# Altium schematic symbol library mySch.SchLib: 47 symbols
Pins are listed as number, name and electrical type; pins without a type are passive.

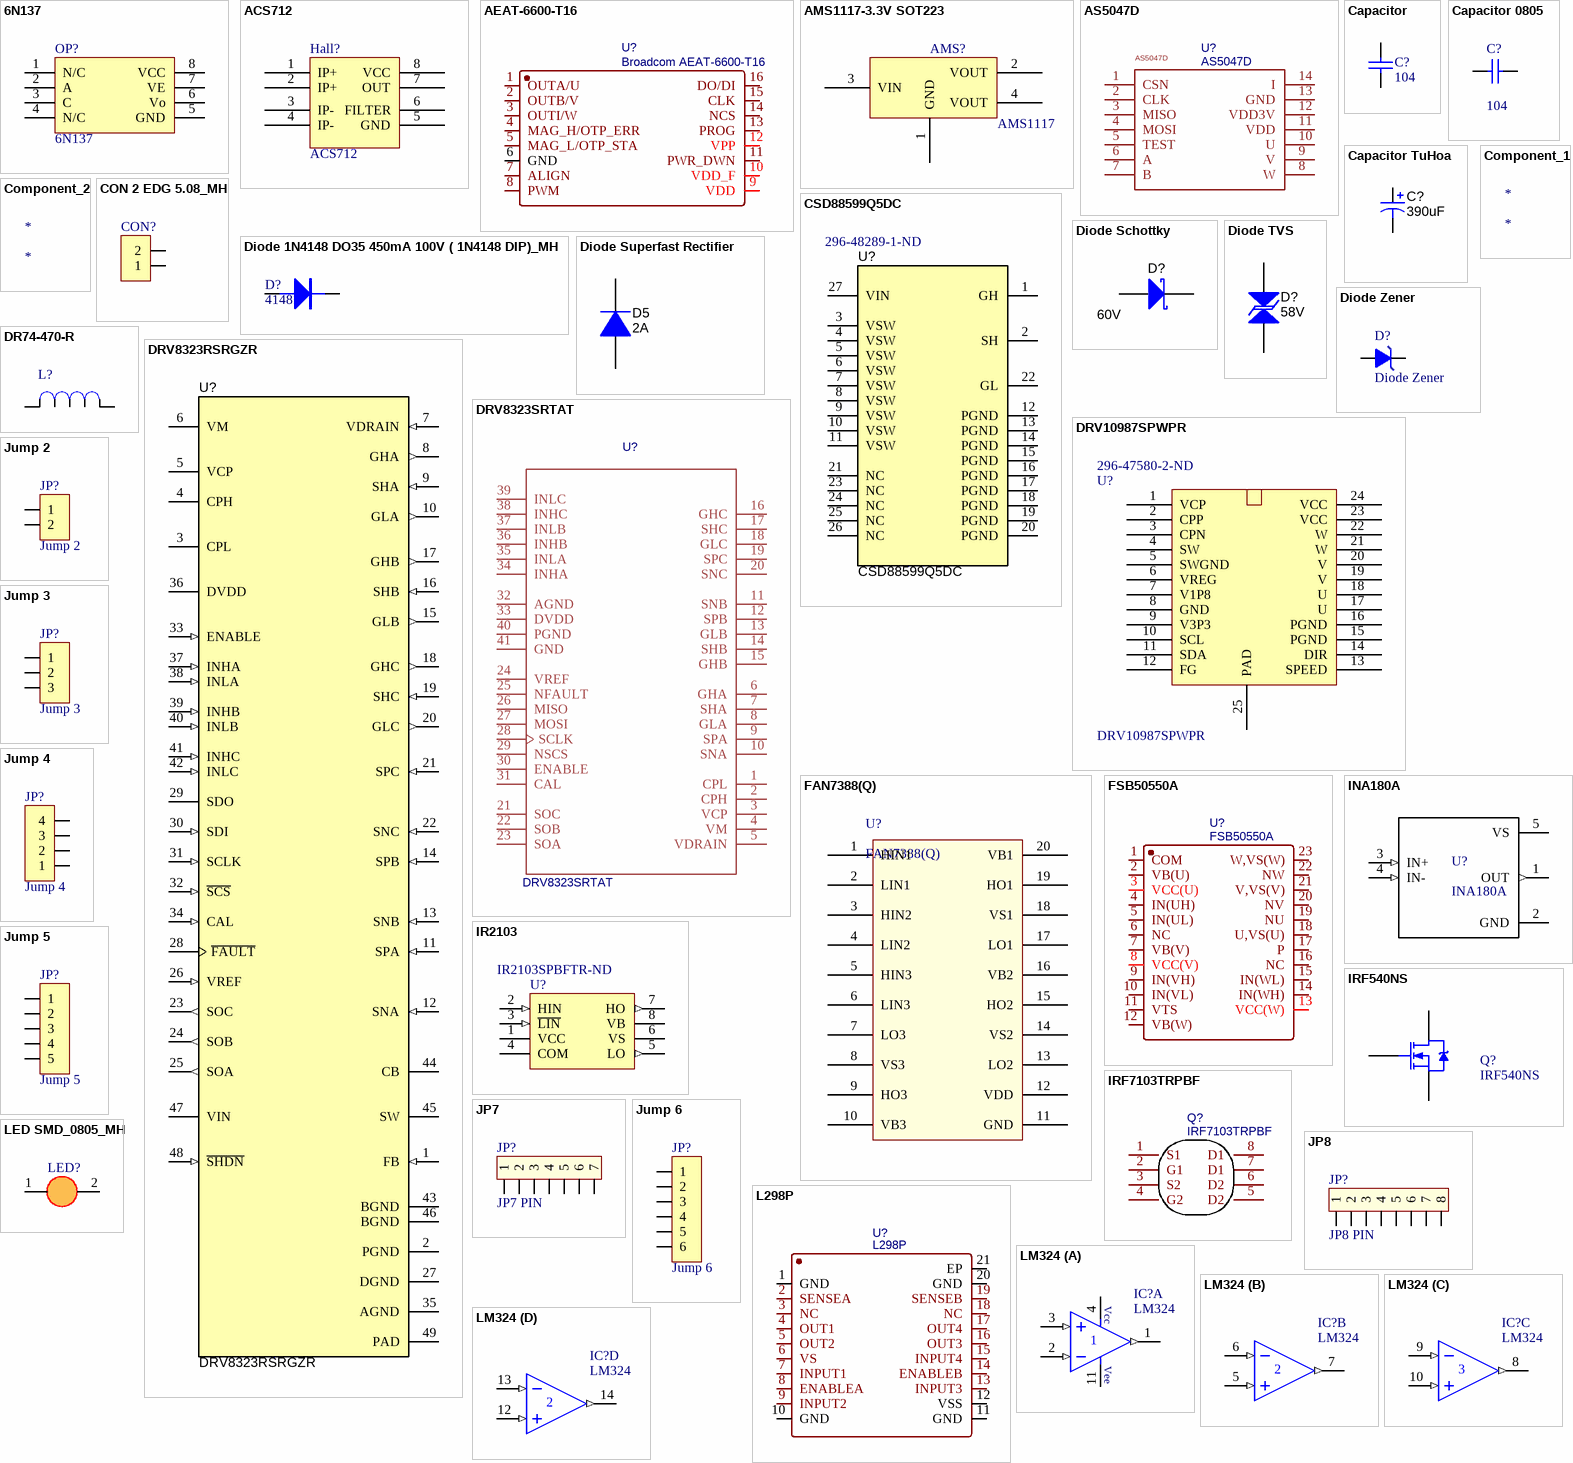
[diagram p0: symbols 6N137 to LM324]

## 6N137
designator OP?, comment 6N137 DIP8 Opto 10Mbit  (value not drawn)
6N137 DIP8 Opto 10Mbit/s
footprint DIP8
pins: 1 N/C, 2 A, 3 C, 4 N/C, 5 GND, 6 Vo, 7 VE, 8 VCC

## ACS712
designator Hall?
footprint SOP 8
pins: 1 IP+, 2 IP+, 3 IP-, 4 IP-, 5 GND, 6 FILTER, 7 OUT, 8 VCC

## AEAT-6600-T16
designator U?, comment Broadcom AEAT-6600-T16
Contributor: eddy.rolland; BOM_Manufacturer Part: AEAT-6600-T16; BOM_Supplier Part: 516-2636-ND; BOM_Supplier: Digi-Key; spicePre: U; Supplier 1: Digi-Key; Supplier Part Number 1: 516-2636-ND
footprint TSSOP16 (TSSOP, 16-Leads, Body 5.10x4.40mm, Pitch 0.65mm, IPC High Density)
pins: 1 OUTA/U, 2 OUTB/V, 3 OUTI/W, 4 MAG_H/OTP_ERR, 5 MAG_L/OTP_STA, 6 GND, 7 ALIGN, 8 PWM, 9 VDD, 10 VDD_F, 11 PWR_DWN, 12 VPP, 13 PROG, 14 NCS, 15 CLK, 16 DO/DI

## AMS1117-3.3V SOT223
designator AMS?, comment AMS1117
footprint SOT223 (SOT-223/SC-73; 4 Leads; Body 6.7 x 7.3 mm, inc. leads (LxW max))
pins: 1 GND, 2 VOUT, 3 VIN, 4 VOUT

## AS5047D
designator U?
BOM_Manufacturer Part: ?; spicePre: U; Supplier 1: Digi-Key; Supplier Part Number 1: AS5047D-ATSMTR-ND
footprint TSSOP14 (TSSOP, 14-Leads, Body 5.00x4.40mm, Pitch 0.65mm, IPC High Density)
pins: 1 CSN, 2 CLK, 3 MISO, 4 MOSI, 5 TEST, 6 A, 7 B, 8 W, 9 V, 10 U, 11 VDD, 12 VDD3V, 13 GND, 14 I

## Capacitor
designator C?, comment 104
Capacitor; VALUE: CN?; LatestRevisionDate: 17-Jul-2002; LatestRevisionNote: Re-released for DXP Platform.; PackageReference: C1206; Publisher: Altium Limited; Value: 104
footprint SM-0603 (Compoment SMD 120x60mil)
pins: 1, 2

## Capacitor 0805
designator C?, comment 104
Ceramic Chip Capacitor - Standard; Note: Footprint corresponds to dimensions for bulk cassette packaging. This case size has tightened tolerances.; Published: 17-Jul-2002; LatestRevisionDate: 19-Mar-2004; LatestRevisionNote: Silkscreen size reduced.; DatasheetDocument: Mar-2001; PackageDocument: Mar-2001; PackageReference: 0805; Publisher: Altium Limited; Code_JEITA: 0805; Code_IPC: 2012[0805]; ComponentLink1Description: Manufacturer Link; ComponentLink1URL: http://www.kemet.com/; ComponentLink2Description: Datasheet; ComponentLink2URL: http://www.kemet.com/kemet/web/homepage/kechome.nsf/vapubfilesname/F3102TA.pdf/$file/F3102TA.pdf; Value: 104
footprint TU_SMD_0805
footprint 0603_Cap
footprint 1210_CAP
pins: 1, 2

## Capacitor TuHoa
designator C?, comment 390uF
PartNumber: UHW1H391MPD6; Manufacturer: Nichicon; Polarized: Y; CompType: Capacitor; U/M: EA; Cap_F: 0.000390; Tolerance_%: 20; Value1: Unknown; VDC_V: 50; Value2: 50V; TaMin_C: -40; TaMax_C: 105; Cap_Case: 10x22; AEC Category: Q200; AEC Qualified: N; SymbolVersion: 2008-07-09; Value: 390uF; PackageReference: 10x22; RoHS: Y; MountType: TH; Technology: AL; Series: ZL; Publisher: Texas Instruments; LatestRevisionDate: 2015-12-17; ComponentLink1Description: Datasheet link; ComponentLink1URL: http://nichicon-us.com/english/products/pdfs/e-uhw.pdf; Supplier 1: Digi-Key; Supplier Part Number 1: 493-6885-ND; AEC Grade: N/A; ValueDisplayed: 390uF
footprint CAPPR5-10X20 (Capacitor, Electrolytic, Radial; Body 10 x 20 mm (Dia.xH typ); Pin Spacing 5 mm (typ))
footprint CAP_12.5 X 25
footprint CP1/3.0
pins: 1 +, 2 -

## Component_1
designator *

## Component_2
designator *

## CON 2 EDG 5.08_MH
designator CON?
CON 2 EDG 5.08 (xanh cong)
footprint CON 2 EDG 5.08
footprint CON200
pins: 1, 2

## CSD88599Q5DC
designator U?  Supplier Part Number 1: 296-48289-1-ND
60 V Half-Bridge NexFE Power Block, DMM0022A; Alternate PartNumber: CSD88599Q5DCT; Manufacturer: Texas Instruments; SymbolCreator: Altium; SizeArea_mm2: 30; SizeAreaWB_mm2: 56; SizeX_mm: 5; SizeY_mm: 6; SizeZ_mm: 1.05; CompType: IC; U/M: EA; SymbolVersion: 2016-08-25; PartNumber: CSD88599Q5DC; PackageReference: DMM0022A; PackageDescription: LSON-CLIP-27; MountType: SMT; ComponentLink1Description: Datasheet Link; ComponentLink1URL: https://sps06.itg.ti.com/sites/KMS/crossdivteams/altium/docs/ComponentDatasheets/CSD88599Q5DC.pdf; RoHS: Y; Publisher: Texas Instruments; LatestRevisionDate: 2016-08-27; Alternate Manufacturer: Texas Instruments; Supplier 1: Digi-Key
footprint DMM0022A (SON, 27-Leads, Body 5x6mm, Pitch 0.5mm)
pins: 1 GH, 2 SH, 3 VSW, 4 VSW, 5 VSW, 6 VSW, 7 VSW, 8 VSW, 9 VSW, 10 VSW, 11 VSW, 12 PGND (power), 13 PGND (power), 14 PGND (power), 15 PGND (power), 16 PGND (power), 17 PGND (power), 18 PGND (power), 19 PGND (power), 20 PGND (power), 21 NC, 22 GL, 23 NC, 24 NC, 25 NC, 26 NC, 27 VIN (power)

## Diode 1N4148 DO35 450mA 100V ( 1N4148 DIP)_MH
designator D?, comment 4148
Diode 1N4148 DO35 450mA 100V ( 1N4148 DIP)
footprint Diode Zener 1N5363B 5W 30V
footprint D2A (Diode 2A, W 150mil, L 450mil)
pins: 1, 2

## Diode Schottky
designator D?, comment 60V
Diode, Schottky, 60 V, 1 A, SOD-323F; PartNumber: PMEG6010CEJ,115; Manufacturer: NXP Semiconductor; U/M: EA; Vf_V: 0.66; Value1: 1A; Value2: 0.66V; Io_A: 1; Vr_V: 60; TJmax_C: 150; SizeAreaWB_mm2: 7.875; SizeArea_mm2: 3.125; SizeX_mm: 2.5; SizeY_mm: 1.25; SizeZ_mm: 0.8; AEC Category: Q101; CompType: Diode; SymbolVersion: 2008-12-08; PackageReference: SOD-323F; Value: 60V; MountType: SMT; Type: Schottky; RoHS: Y; Published: 2008-06-26; Publisher: Texas Instruments; LatestRevisionDate: 2016-08-24; ComponentLink1Description: Datasheet link; ComponentLink1URL: http://www.nxp.com/documents/data_sheet/PMEG6010CEH_PMEG6010CEJ.pdf; Supplier 1: Digi-Key; Supplier Part Number 1: 568-4138-1-ND; Supplier 2: Mouser; Supplier Part Number 2: 771-PMEG6010CEJ-T/R; Supplier 3: Farnell; Supplier Part Number 3: 1867616; AEC Qualified: ?; Supplier 4: Digi-Key; Supplier Part Number 4: 1727-3882-1-ND
footprint PMEG6010CEJ,115 (NXP recommended land pattern)
pins: 1 K, 2 A

## Diode Superfast Rectifier
designator D5, comment 2A
Diode, Superfast Rectifier, 200 V, 2 A, SMA; PartNumber: ES2DA-13-F; Manufacturer: Diodes Inc.; U/M: EA; Vf_V: 0.92; Value: 200V; Value2: 0.92V; Io_A: 2; Vr_V: 200; TJmax_C: 150; RJC_CperW: 20; SizeAreaWB_mm2: 37.3428; SizeArea_mm2: 16.3228; SizeX_mm: 5.59; SizeY_mm: 2.92; SizeZ_mm: 2.87; AEC Category: Q101; SymbolVersion: 2008-12-08; PackageReference: SMA; CompType: Diode; Value1: 2A; MountType: SMT; Type: Superfast Rectifier; RoHS: Y; Published: 2008-06-26; Publisher: Texas Instruments; LatestRevisionDate: 2016-08-24; ComponentLink1Description: Datasheet link; ComponentLink1URL: http://www.diodes.com/datasheets/ds14002.pdf; Supplier 1: Digi-Key; Supplier Part Number 1: ES2DA-FDICT-ND; Supplier 2: Mouser; Supplier Part Number 2: 621-ES2DA-13-F; Supplier 3: Newark; Supplier Part Number 3: 65W8574; AEC Qualified: ?
footprint SMA (Molded Diode, 2-Leads, Body 4.3x2.6mm, IPC Medium Density, based on OnSemi component dimensions and land pattern)
pins: 1 K, 2 A

## Diode TVS
designator D?, comment 58V
Diode, TVS, Bi, 58 V, SMA; PartNumber: SMAJ58CA; Manufacturer: Littelfuse; U/M: EA; Power_W: 3.3; Vr_V: 58; Value1: 3.3W; RJA_CperW: 120; SizeAreaWB_mm2: 37.3428; SizeArea_mm2: 16.3228; SizeX_mm: 5.59; SizeY_mm: 2.92; SizeZ_mm: 2.87; AEC Category: Q101; CompType: TVS; SymbolVersion: 2012-01-13; PackageReference: SMA; Vz_V: N/A; MountType: SMT; RoHS: Y; ComponentLink1Description: Datasheet link; ComponentLink1URL: http://www.littelfuse.com/~/media/electronics/datasheets/tvs_diodes/littelfuse_tvs_diode_smaj_datasheet.pdf.pdf; Published: 2008-10-08; Publisher: Texas Instruments; LatestRevisionDate: 2016-08-19; LatestRevisionNote: Updated Supplier Data; Supplier 1: Digi-Key; Supplier Part Number 1: SMAJ58CALFDKR-ND; Supplier 2: Mouser; Supplier Part Number 2: 576-SMAJ58CA; Supplier 3: Farnell; Supplier Part Number 3: 1685149; AEC Qualified: ?; Value: 58V
footprint SMAJ58CALFTR-ND (Molded Diode, 2-Leads, Body 4.3x2.6mm, IPC Medium Density, based on OnSemi component dimensions and land pattern)
pins: 1, 2

## Diode Zener
designator D?
footprint DO-35
pins: 1 A, 2 K

## DR74-470-R
designator L?  (value not drawn)
Inductor Power Shielded Drum Core 49.64uH/47uH 20% 100KHz Ferrite 1.15A 216mOhm DCR T/R; MF: Eaton; Package: Nonstandard Cooper Bussmann; MP: DR74-470-R; Price: 0.92 USD; Availability: Good; SnapEDA_Link: https://www.snapeda.com/parts/DR74-470-R/Eaton/view-part/?ref=snap; Value: *; Supplier 1: Digi-Key; Supplier Part Number 1: 513-1535-2-ND
footprint INDM7676X435N
pins: 1, 2

## DRV8323RSRGZR
designator U?
60-V Three-Phase Smart Gate Driver, RGZ0048B; Alternate PartNumber: DRV8323RSRGZT; Manufacturer: Texas Instruments; SymbolCreator: Altium; SizeArea_mm2: 49; SizeAreaWB_mm2: 81; SizeX_mm: 7; SizeZ_mm: 1; CompType: IC; U/M: EA; SymbolVersion: 2016-03-15; PartNumber: DRV8323RSRGZR; PackageReference: RGZ0048B; PackageDescription: VQFN-48; MountType: SMT; SizeY_mm: 7; ComponentLink1Description: Datasheet Link; ComponentLink1URL: https://sps06.itg.ti.com/sites/KMS/crossdivteams/altium/docs/ComponentDatasheets/DRV832x_031016.pdf; RoHS: Y; Publisher: Texas Instruments; LatestRevisionDate: 2016-08-27; Alternate Manufacturer: Texas Instruments; Supplier 1: Digi-Key; Supplier Part Number 1: 296-47769-2-ND
footprint RGZ0048B (QFN, 48-Leads, Body 7x7mm, Pitch 0.5mm, Thermal Pad 5.15x5.15mm, TI Recommended)
pins: 1 FB (in), 2 PGND (power), 3 CPL, 4 CPH, 5 VCP (power), 6 VM (power), 7 VDRAIN (in), 8 GHA (out), 9 SHA (in), 10 GLA (out), 11 SPA (in), 12 SNA (in), 13 SNB (in), 14 SPB (in), 15 GLB (out), 16 SHB (in), 17 GHB (out), 18 GHC (out), 19 SHC (in), 20 GLC (out), 21 SPC (in), 22 SNC (in), 23 SOC (out), 24 SOB (out), 25 SOA (out), 26 VREF (in), 27 DGND (power), 28 ~{FAULT} (oc), 29 SDO, 30 SDI (in), 31 SCLK (in), 32 ~{SCS} (in), 33 ENABLE (in), 34 CAL (in), 35 AGND (power), 36 DVDD (power), 37 INHA (in), 38 INLA (in), 39 INHB (in), 40 INLB (in), 41 INHC (in), 42 INLC (in), 43 BGND (power), 44 CB (power), 45 SW (power), 46 BGND (power), 47 VIN (power), 48 ~{SHDN} (in), 49 PAD (power)

## DRV8323SRTAT
designator U?
Contributor: Peanut; BOM_Manufacturer Part: ?; spicePre: U; Supplier 1: Digi-Key; Supplier Part Number 1: 296-48535-2-ND
footprint WQFN-40(6X6)
pins: 1 CPL, 2 CPH, 3 VCP, 4 VM, 5 VDRAIN, 6 GHA, 7 SHA, 8 GLA, 9 SPA, 10 SNA, 11 SNB, 12 SPB, 13 GLB, 14 SHB, 15 GHB, 16 GHC, 17 SHC, 18 GLC, 19 SPC, 20 SNC, 21 SOC, 22 SOB, 23 SOA, 24 VREF, 25 NFAULT, 26 MISO, 27 MOSI, 28 SCLK, 29 NSCS, 30 ENABLE, 31 CAL, 32 AGND, 33 DVDD, 34 INHA, 35 INLA, 36 INHB, 37 INLB, 38 INHC, 39 INLC, 40 PGND, 41 GND

## DRV10987SPWPR
designator U?  Supplier Part Number 1: 296-47580-2-ND
Supplier 1: Digi-Key
footprint TSSOP24 (TSSOP, 24-Leads, Body 7.80x4.40mm, Pitch 0.65mm, IPC High Density)
footprint HTSSOP24
footprint HTSSOP24(Q)
pins: 1 VCP, 2 CPP, 3 CPN, 4 SW, 5 SWGND, 6 VREG, 7 V1P8, 8 GND, 9 V3P3, 10 SCL, 11 SDA, 12 FG, 13 SPEED, 14 DIR, 15 PGND, 16 PGND, 17 U, 18 U, 19 V, 20 V, 21 W, 22 W, 23 VCC, 24 VCC, 25 PAD

## FAN7388(Q)
designator U?
footprint SOIC20_M (Footprint not found)
footprint SOIC20A_M (20-Pin Small Outline Integrated Circuit 1.27 mm Pitch, IPC Low Density)
pins: 1 HIN1, 2 LIN1, 3 HIN2, 4 LIN2, 5 HIN3, 6 LIN3, 7 LO3, 8 VS3, 9 HO3, 10 VB3, 11 GND, 12 VDD, 13 LO2, 14 VS2, 15 HO2, 16 VB2, 17 LO1, 18 VS1, 19 HO1, 20 VB1

## FSB50550A
designator U?
BOM_Manufacturer: ON Semicon; Contributor: LCSC; BOM_Supplier: LCSC; BOM_Supplier Part: C115076; BOM_Manufacturer Part: FSB50550A; spicePre: U; Supplier 1: Mouser; Supplier Part Number 1: 512-FSB50550AS
footprint FSB50550AS
pins: 1 COM, 2 VB(U), 3 VCC(U), 4 IN(UH), 5 IN(UL), 6 NC, 7 VB(V), 8 VCC(V), 9 IN(VH), 10 IN(VL), 11 VTS, 12 VB(W), 13 VCC(W), 14 IN(WH), 15 IN(WL), 16 NC, 17 P, 18 U,VS(U), 19 NU, 20 NV, 21 V,VS(V), 22 NW, 23 W,VS(W)

## INA180A
designator U?
footprint SOT95P280X145-5N
pins: 1 OUT (out), 2 GND (power), 3 IN+ (in), 4 IN- (in), 5 VS (power)

## IR2103
designator U?  Supplier Part Number 1: IR2103SPBFTR-ND  (hidden comment: IR2103)
High and Low Side Driver; Published: 8-Jun-2000; LatestRevisionDate: 04-Mar-2005; LatestRevisionNote: Stylized 3D Model Added.; DatasheetVersion: PD600451; PackageReference: PDIP8; Publisher: Altium Limited; PackageDescription: DIP; 8 Leads; Row Spacing 7.62 mm; Pitch 2.54 mm; Code_JEDEC: MO-001-AN; ComponentLink1Description: Manufacturer Link; ComponentLink1URL: http://www.irf.com/; ComponentLink2Description: Datasheet; ComponentLink2URL: http://www.irf.com/product-info/datasheets/data/ir2103.pdf; Supplier 1: Digi-Key
footprint 8-SOIC
footprint SO8 (SOIC, 8-Leads, Body 4.9x3.9mm, Pitch 1.27mm, IPC High Density)
footprint SO8L (SOIC, 8-Leads, Body 7.50x7.50mm, Pitch 1.27mm, IPC Medium Density)
pins: 1 VCC (power), 2 HIN (in), 3 ~{LIN} (in), 4 COM (power), 5 LO (out), 6 VS (power), 7 HO (out), 8 VB (power)

## IRF540NS
designator Q?
HEXFET Power MOSFET; Published: 8-Jun-2000; LatestRevisionDate: 20-Nov-2009; LatestRevisionNote: IPC-7351 Footprint Added.; DatasheetVersion: May-1998; PackageReference: D2PAK; Publisher: Altium Limited; PackageDescription: 3-Pin Transistor Outline Package 2.54 mm Pitch, 15.1 mm Lead Span; ComponentLink1Description: Manufacturer Link; ComponentLink1URL: http://www.irf.com/; ComponentLink2Description: Datasheet; ComponentLink2URL: http://www.irf.com/product-info/datasheets/data/irf540ns.pdf; Supplier 1: Farnell
footprint D2PAK_M (D2-PAK, 4-Leads, Body 8.8x10.4mm, Pitch 2.54mm, Lead Span 15.1mm, IPC Low Density)
footprint D2PAK_M_1
pins: 1 G, 2 D, 3 S

## IRF7103TRPBF
designator Q?
BOM_Manufacturer: IR; BOM_Supplier: LCSC; BOM_Manufacturer Part: IRF7103TRPBF; image: //image.lceda.cn/szlcsc/C27080.jpg; BOM_Supplier Part: C27080; spicePre: Q; Supplier 1: Digi-Key; Supplier Part Number 1: IRF7103PBFCT-ND
footprint SO8 (SOIC, 8-Leads, Body 4.9x3.9mm, Pitch 1.27mm, IPC High Density)
pins: 1 S1, 2 G1, 3 S2, 4 G2, 5 D2, 6 D2, 7 D1, 8 D1

## JP7
designator JP?, comment JP7 PIN
Value: JP7
footprint JP7
footprint JP7H
pins: 1, 2, 3, 4, 5, 6, 7

## JP8
designator JP?, comment JP8 PIN
Value: JP7
footprint JP8
footprint JP8H
footprint JP8
footprint JP8H
pins: 1, 2, 3, 4, 5, 6, 7, 8

## Jump 2
designator JP?
Jump 2P 2.54
footprint Jump 2 (Jump 2P 2.54)
pins: 1, 2

## Jump 3
designator JP?
Jump 3P 2.54
footprint Jump 3 (Jump 3P 2.54)
pins: 1, 2, 3

## Jump 4
designator JP?
Jump 4P 2.54
footprint Jump 4
pins: 1, 2, 3, 4

## Jump 5
designator JP?
Jump 5P 2.54
footprint Jump 5
pins: 1, 2, 3, 4, 5

## Jump 6
designator JP?
Jump 6P 2.54
footprint Jump 6
footprint Jump 6
footprint ZH 1.5 6P
pins: 1, 2, 3, 4, 5, 6

## L298P
designator U?
BOM_Manufacturer: STMicroelectronics; spicePre: X; BOM_Supplier Part: C85595; BOM_Supplier: LCSC; BOM_Manufacturer Part: L298P
footprint SOIC127P1420X360-21N
pins: 1 GND, 2 SENSEA, 3 NC, 4 OUT1, 5 OUT2, 6 VS, 7 INPUT1, 8 ENABLEA, 9 INPUT2, 10 GND, 11 GND, 12 VSS, 13 INPUT3, 14 ENABLEB, 15 INPUT4, 16 OUT3, 17 OUT4, 18 NC, 19 SENSEB, 20 GND, 21 EP

## LED SMD_0805_MH
designator LED?, comment LED  (value not drawn)
LED 3mm
footprint LED_0805
pins: 1 A, 2 K

## LM324
designator IC?
Op x 4; Value: LM324
footprint DIP14
footprint SO14
part A pins: 1 OUT (out), 2 IN- (in), 3 IN+ (in), 4 V+ (power), 11 V- (power)
part B pins: 5 IN+ (in), 6 IN- (in), 7 OUT (out)
part C pins: 8 OUT (out), 9 IN- (in), 10 IN+ (in)
part D pins: 12 IN+ (in), 13 IN- (in), 14 OUT (out)
part A text: Vcc; Vee

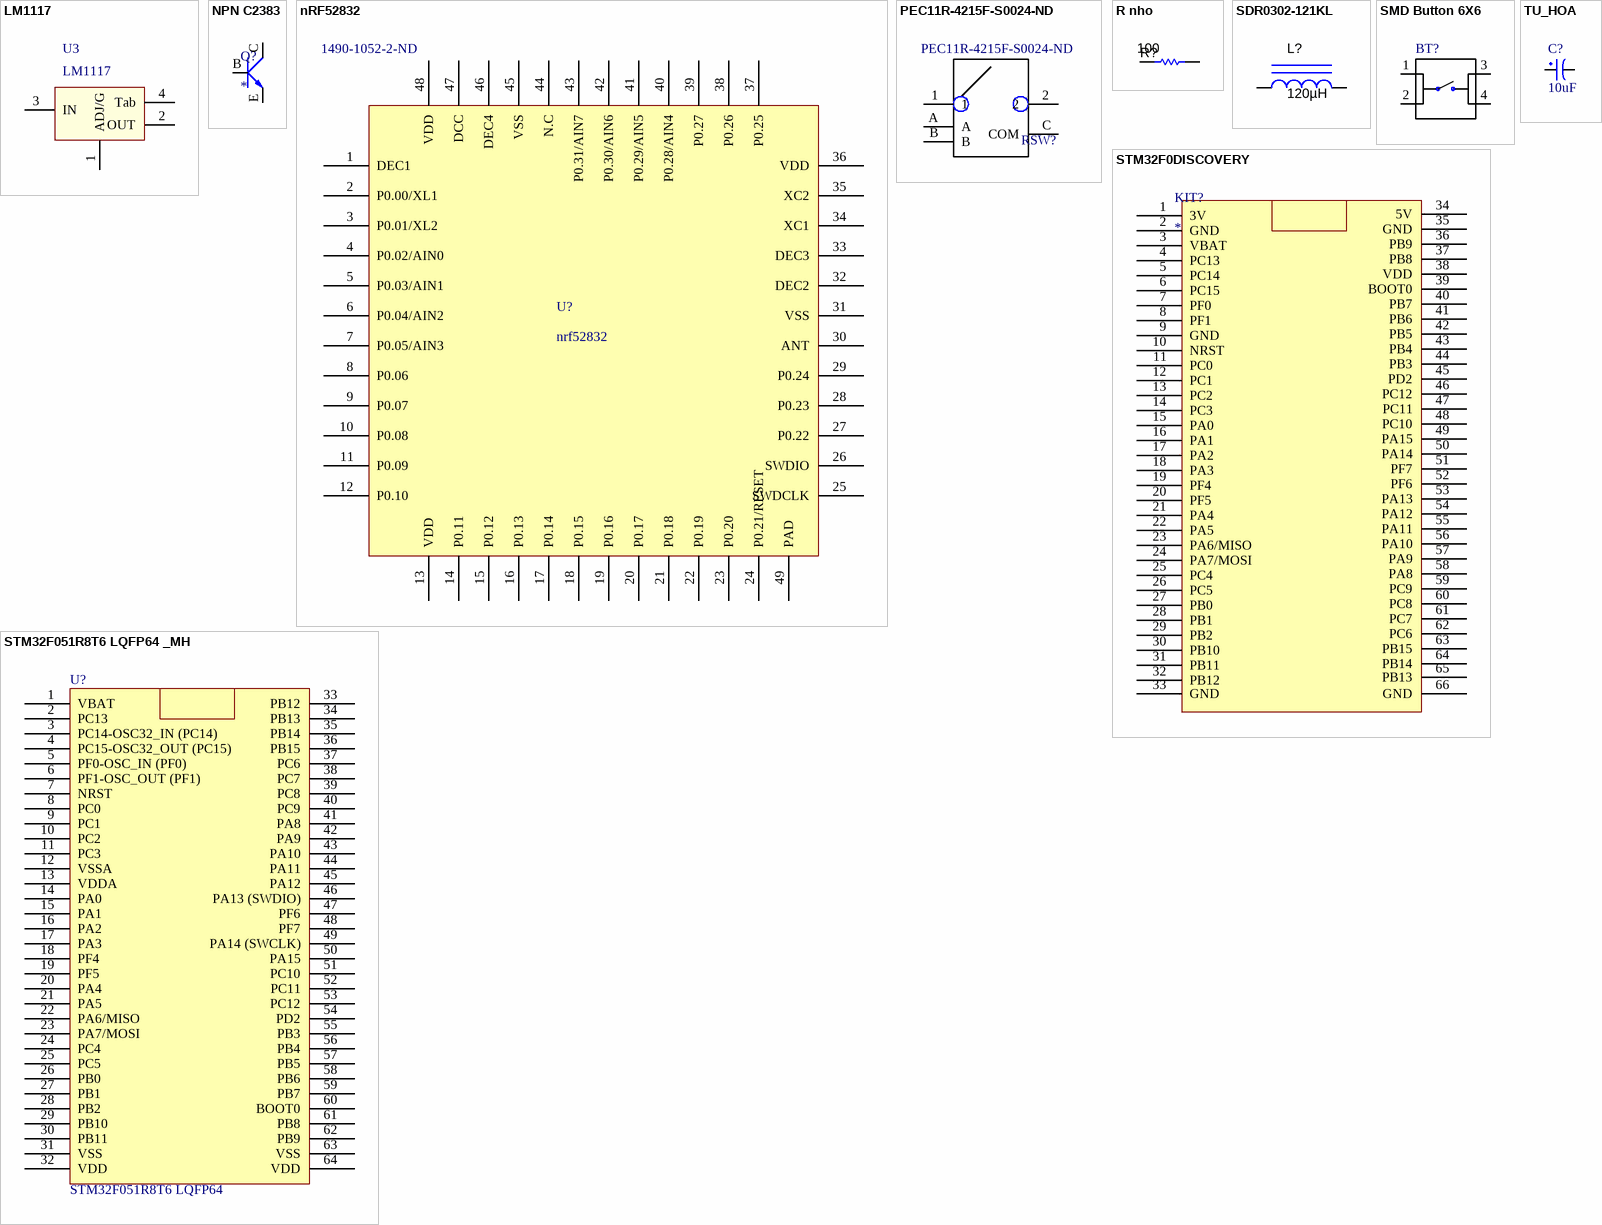
[diagram p1: symbols LM1117 to TU_HOA]

## LM1117
designator U3
3v3; Value: LM317
footprint SOT223
pins: 1 ADJ/G, 2 OUT, 3 IN, 4 Tab

## NPN C2383
designator Q?
Supplier 1: Digi-Key; Supplier Part Number 1: KSC2383OBU-ND
footprint TO92 (TO, Flat Index; 3 In-Line, Axial Leads; Body Dia. 4.8mm)
pins: B, C, E

## nRF52832
designator U?, comment nrf52832  Supplier Part Number 1: 1490-1052-2-ND
Supplier 1: Digi-Key
footprint nRF528321
pins: 1 DEC1, 2 P0.00/XL1, 3 P0.01/XL2, 4 P0.02/AIN0, 5 P0.03/AIN1, 6 P0.04/AIN2, 7 P0.05/AIN3, 8 P0.06, 9 P0.07, 10 P0.08, 11 P0.09, 12 P0.10, 13 VDD, 14 P0.11, 15 P0.12, 16 P0.13, 17 P0.14, 18 P0.15, 19 P0.16, 20 P0.17, 21 P0.18, 22 P0.19, 23 P0.20, 24 P0.21/RESET, 25 SWDCLK, 26 SWDIO, 27 P0.22, 28 P0.23, 29 P0.24, 30 ANT, 31 VSS, 32 DEC2, 33 DEC3, 34 XC1, 35 XC2, 36 VDD, 37 P0.25, 38 P0.26, 39 P0.27, 40 P0.28/AIN4, 41 P0.29/AIN5, 42 P0.30/AIN6, 43 P0.31/AIN7, 44 N.C, 45 VSS, 46 DEC4, 47 DCC, 48 VDD, 49 PAD

## PEC11R-4215F-S0024-ND
designator RSW?
Rotary Encoder Switch; Supplier 1: Digi-Key; Part Number: PEC11R-4215F-S0024; Supplier Part Number 1: PEC11R-4215F-S0024-ND
footprint Rotary Encoder Switch
pins: 1, 2, A, B, C COM

## R nho
designator R?, comment 100
RES, 100, 1%, 0.1 W, 0402; PartNumber: ERJ-2RKF1000X; Manufacturer: Panasonic; CompType: Resistor; Value_Code: 100R; Tolerance_%: 1; Power_W: 0.1; Value2: 0.1W; VDC_V: 50; TempCo: 100 ppm/C; EIA_Code: E96; U/M: EA; AEC Category: Q200; SymbolVersion: 2009-05-29; PackageReference: 0402; RoHS: Y; Res_ohm: 100; Value1: 1%; MountType: SMT; Technology: Thick Film; Published: 2008-06-26; Publisher: Texas Instruments; LatestRevisionDate: 2016-01-08; ComponentLink1Description: Datasheet link; ComponentLink1URL: http://industrial.panasonic.com/www-data/pdf/AOA0000/AOA0000CE2.pdf; Supplier 1: Digi-Key; Supplier Part Number 1: P100LCT-ND; Supplier 2: Mouser; Supplier Part Number 2: 667-ERJ-2RKF1000X; Supplier 3: Farnell; Supplier Part Number 3: 2304034; AEC Qualified: ?; Value: 100
footprint Tro SMD 0805
footprint 2512_R (Chip Resistor, Body 6.3x3.2mm, IPC Medium Density)
footprint 0603_R
footprint 1206-R
pins: 1, 2

## SDR0302-121KL
designator L?, comment ValueDisplayed: 120µH  (hidden comment: 120uH)
Inductor, Drum Core, Ferrite, 120uH, 0.22A, 3.2 ohm, SMD; PartNumber: SDR0302-121KL; Manufacturer: Bourns; Ind_H: 120.0E-6; Imax_A: 0.22; Irms: 0.22A @ 40C rise; Isat: 0.29A @ 10% inductance drop; DCR_ohm: 3.2; Value1: 3.2 ohm; SymbolVersion: 2008-07-23; CompType: Inductor; Value: 120uH; Value2: 0.22A; Technology: Drum Core; MountType: SMT; Material: Ferrite; PackageReference: 3x2.5x2.8mm; Published: 2008-06-26; Publisher: Texas Instruments; LatestRevisionDate: 2014-06-23; ComponentLink1Description: Datasheet link; ComponentLink1URL: http://www.bourns.com/data/global/pdfs/SDR0302.pdf; RoHS: Y; Supplier 1: Digi-Key; Supplier Part Number 1: SDR0302-121KLCT-ND; Supplier 2: Mouser; Supplier Part Number 2: 652-SDR0302-121KL
footprint SDR0302 (BOURNS)
footprint SRR4028-121YCT-ND
pins: 1, 2

## SMD Button 6X6
designator BT?  (value not drawn)
FSM4JSMA=SMT,TACTILE,PB SWITCH; Configuration_Pole-Throw: Single Pole - Single Throw; MP: 4-1437565-1; MF: TE Connectivity; Contact_Current_Rating: 50 mA; Availability: Good; Price: 0.15 USD; Package: None; Link: http://www.te.com/usa-en/product-4-1437565-1.html; EU_RoHS_Compliance: Compliant; SnapEDA_Link: https://www.snapeda.com/parts/4-1437565-1/TE%20Connectivity/view-part/?ref=snap; Value: *; Supplier 1: Digi-Key; Supplier Part Number 1: 450-1759-2-ND
footprint SMD Button 6X6
pins: 1, 2, 3, 4

## STM32F0DISCOVERY
designator KIT?
footprint STM32F0DISCOVERY
footprint STM32F0DISCOVERY - FOC
footprint STM32F0DISCOVERY-6N137
pins: 1 3V, 2 GND, 3 VBAT, 4 PC13, 5 PC14, 6 PC15, 7 PF0, 8 PF1, 9 GND, 10 NRST, 11 PC0, 12 PC1, 13 PC2, 14 PC3, 15 PA0, 16 PA1, 17 PA2, 18 PA3, 19 PF4, 20 PF5, 21 PA4, 22 PA5, 23 PA6/MISO, 24 PA7/MOSI, 25 PC4, 26 PC5, 27 PB0, 28 PB1, 29 PB2, 30 PB10, 31 PB11, 32 PB12, 33 GND, 34 5V, 35 GND, 36 PB9, 37 PB8, 38 VDD, 39 BOOT0, 40 PB7, 41 PB6, 42 PB5, 43 PB4, 44 PB3, 45 PD2, 46 PC12, 47 PC11, 48 PC10, 49 PA15, 50 PA14, 51 PF7, 52 PF6, 53 PA13, 54 PA12, 55 PA11, 56 PA10, 57 PA9, 58 PA8, 59 PC9, 60 PC8, 61 PC7, 62 PC6, 63 PB15, 64 PB14, 65 PB13, 66 GND

## STM32F051R8T6 LQFP64 _MH
designator U?, comment STM32F051R8T6 LQFP64
STM32F051R8T6 LQFP64 _MH
footprint LQFP64
pins: 1 VBAT, 2 PC13, 3 PC14-OSC32_IN (PC14), 4 PC15-OSC32_OUT (PC15), 5 PF0-OSC_IN (PF0), 6 PF1-OSC_OUT (PF1), 7 NRST, 8 PC0, 9 PC1, 10 PC2, 11 PC3, 12 VSSA, 13 VDDA, 14 PA0, 15 PA1, 16 PA2, 17 PA3, 18 PF4, 19 PF5, 20 PA4, 21 PA5, 22 PA6/MISO, 23 PA7/MOSI, 24 PC4, 25 PC5, 26 PB0, 27 PB1, 28 PB2, 29 PB10, 30 PB11, 31 VSS, 32 VDD, 33 PB12, 34 PB13, 35 PB14, 36 PB15, 37 PC6, 38 PC7, 39 PC8, 40 PC9, 41 PA8, 42 PA9, 43 PA10, 44 PA11, 45 PA12, 46 PA13 (SWDIO), 47 PF6, 48 PF7, 49 PA14 (SWCLK), 50 PA15, 51 PC10, 52 PC11, 53 PC12, 54 PD2, 55 PB3, 56 PB4, 57 PB5, 58 PB6, 59 PB7, 60 BOOT0, 61 PB8, 62 PB9, 63 VSS, 64 VDD

## TU_HOA
designator C?, comment 10uF
Cap P  0,1uF < 22uF , 16 - 50V; Value: 10uF/50V; Description 1: 10 => 220uF/6,3V/10V - 10uF => 100uF/16V; Description 2: 0,1uF => 33uF/50V - 10uF => 22uF/63V; Description 3: 0,47uF => 10uF/100V
footprint CP1.5/3.4 (Tu hoa 220->470uF,16V, 470uF/16V,25V)
footprint CP1/2 (Tu hoa < 22uF/16>50V)
footprint CP1/2.5 (Tu hoa 33 >100 uF,50V, 220uF/16V,25V)
footprint CP1/3.0
footprint CP2/5 (Tu hoa 1000uF/25V,50V)
footprint CP4/8.5 (Tu hoa 4700uF/50V)
pins: 1, 2
1 alternate drawing of the same symbol